# Altium schematic symbol library WINSEN.SchLib: 1 symbol
Pins are listed as number, name and electrical type; pins without a type are passive.

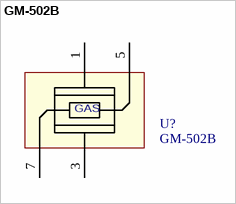
[diagram p0: symbol GM-502B]

## GM-502B
designator U?
value: GM-502B
footprint GM-xxx (GM-702B, GM-502B)
pins: 1 RH1, 3 RH2, 5 RS1, 7 RS2
text: GAS